# EAGLE library part MOJO (library SparkFun-Boards)
Mojo v3 FPGA Development Board Mechanical footprint with connectors for Mojo FPGA dev board. SparkFun Products: Mojo v3 <https://www.sparkfun.com/products/11953>
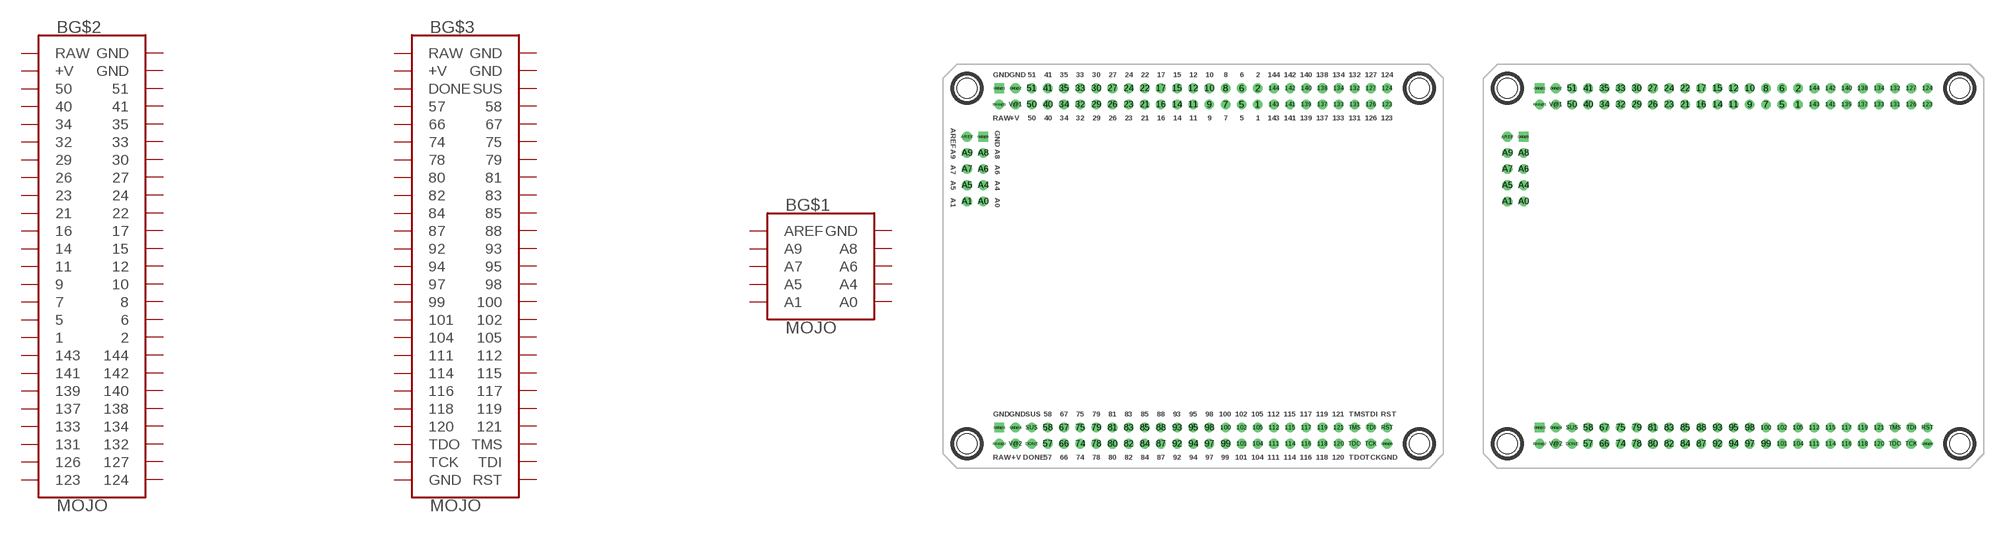
[diagram p1: symbol with the pads of MOJO_V3; footprints MOJO_V3, MOJO_V3_NO_LABEL]

Designator prefix B; gates G$1=MOJO_ANALOG_HEADER G$2=MOJO_HEADER_1 G$3=MOJO_HEADER_2

## MOJOV3  [MOJO_V3]
1  G$2:1
2  G$2:2
5  G$2:5
6  G$2:6
7  G$2:7
8  G$2:8
9  G$2:9
10  G$2:10
11  G$2:11
12  G$2:12
14  G$2:14
15  G$2:15
16  G$2:16
17  G$2:17
21  G$2:21
22  G$2:22
23  G$2:23
24  G$2:24
26  G$2:26
27  G$2:27
29  G$2:29
30  G$2:30
32  G$2:32
33  G$2:33
34  G$2:34
35  G$2:35
40  G$2:40
41  G$2:41
50  G$2:50
51  G$2:51
57  G$3:57
58  G$3:58
66  G$3:66
67  G$3:67
74  G$3:74
75  G$3:75
78  G$3:78
79  G$3:79
80  G$3:80
81  G$3:81
82  G$3:82
83  G$3:83
84  G$3:84
85  G$3:85
87  G$3:87
88  G$3:88
92  G$3:92
93  G$3:93
94  G$3:94
95  G$3:95
97  G$3:97
98  G$3:98
99  G$3:99
100  G$3:100
101  G$3:101
102  G$3:102
104  G$3:104
105  G$3:105
111  G$3:111
112  G$3:112
114  G$3:114
115  G$3:115
116  G$3:116
117  G$3:117
118  G$3:118
119  G$3:119
120  G$3:120
121  G$3:121
123  G$2:123
124  G$2:124
126  G$2:126
127  G$2:127
131  G$2:131
132  G$2:132
133  G$2:133
134  G$2:134
137  G$2:137
138  G$2:138
139  G$2:139
140  G$2:140
141  G$2:141
142  G$2:142
143  G$2:143
144  G$2:144
A0  G$1:A0  in
A1  G$1:A1  in
A4  G$1:A4  in
A5  G$1:A5  in
A6  G$1:A6  in
A7  G$1:A7  in
A8  G$1:A8  in
A9  G$1:A9  in
AREF  G$1:AREF  in
DONE  G$3:DONE
GND@1  G$2:GND  sup
GND@2  G$2:GND  sup
GND@3  G$3:GND  sup
GND@4  G$3:GND  sup
GND@5  G$1:GND  sup
GND@6  G$3:GND  sup
RAW@1  G$2:RAW  sup
RAW@2  G$3:RAW  sup
RST  G$3:RST  in
SUS  G$3:SUS  in
TCK  G$3:TCK  in
TDI  G$3:TDI  in
TDO  G$3:TDO  out
TMS  G$3:TMS  in
V@1  G$2:+V  sup
V@2  G$3:+V  sup

## MOJOV3_NO_LABEL  [MOJO_V3_NO_LABEL]
Pads as for MOJO_V3

## Footprint MOJO_V3 (pad centres in mm)
Mojo v3 FPGA Footprint Specifications: Pin count:110 Pin pitch: 0.1" Area:3.1x2.5 inch Example device(s): Mojo
drill 1: 1 10.16,24.13; 2 10.16,26.67; 5 7.62,24.13; 6 7.62,26.67; 7 5.08,24.13; 8 5.08,26.67; 9 2.54,24.13; 10 2.54,26.67; 11 0,24.13; 12 0,26.67; 14 -2.54,24.13; 15 -2.54,26.67; 16 -5.08,24.13; 17 -5.08,26.67; 21 -7.62,24.13; 22 -7.62,26.67; 23 -10.16,24.13; 24 -10.16,26.67; 26 -12.7,24.13; 27 -12.7,26.67; 29 -15.24,24.13; 30 -15.24,26.67; 32 -17.78,24.13; 33 -17.78,26.67; 34 -20.32,24.13; 35 -20.32,26.67; 40 -22.86,24.13; 41 -22.86,26.67; 50 -25.4,24.13; 51 -25.4,26.67; 57 -22.86,-29.21; 58 -22.86,-26.67; 66 -20.32,-29.21; 67 -20.32,-26.67; 74 -17.78,-29.21; 75 -17.78,-26.67; 78 -15.24,-29.21; 79 -15.24,-26.67; 80 -12.7,-29.21; 81 -12.7,-26.67; 82 -10.16,-29.21; 83 -10.16,-26.67; 84 -7.62,-29.21; 85 -7.62,-26.67; 87 -5.08,-29.21; 88 -5.08,-26.67; 92 -2.54,-29.21; 93 -2.54,-26.67; 94 0,-29.21; 95 0,-26.67; 97 2.54,-29.21; 98 2.54,-26.67; 99 5.08,-29.21; 100 5.08,-26.67; 101 7.62,-29.21; 102 7.62,-26.67; 104 10.16,-29.21; 105 10.16,-26.67; 111 12.7,-29.21; 112 12.7,-26.67; 114 15.24,-29.21; 115 15.24,-26.67; 116 17.78,-29.21; 117 17.78,-26.67; 118 20.32,-29.21; 119 20.32,-26.67; 120 22.86,-29.21; 121 22.86,-26.67; 123 30.48,24.13; 124 30.48,26.67; 126 27.94,24.13; 127 27.94,26.67; 131 25.4,24.13; 132 25.4,26.67; 133 22.86,24.13; 134 22.86,26.67; 137 20.32,24.13; 138 20.32,26.67; 139 17.78,24.13; 140 17.78,26.67; 141 15.24,24.13; 142 15.24,26.67; 143 12.7,24.13; 144 12.7,26.67; A0 -33.02,8.89; A1 -35.56,8.89; A4 -33.02,11.43; A5 -35.56,11.43; A6 -33.02,13.97; A7 -35.56,13.97; A8 -33.02,16.51; A9 -35.56,16.51; AREF -35.56,19.05; DONE -25.4,-29.21; GND@2 -27.94,26.67; GND@4 -27.94,-26.67; GND@6 30.48,-29.21; RAW@1 -30.48,24.13; RAW@2 -30.48,-29.21; RST 30.48,-26.67; SUS -25.4,-26.67; TCK 27.94,-29.21; TDI 27.94,-26.67; TDO 25.4,-29.21; TMS 25.4,-26.67; V@1 -27.94,24.13; V@2 -27.94,-29.21
drill 1 square: GND@1 -30.48,26.67; GND@3 -30.48,-26.67; GND@5 -33.02,19.05
hole 3.2 at -35.56,-29.21
hole 3.2 at -35.56,26.67
hole 3.2 at 35.56,26.67
hole 3.2 at 35.56,-29.21

## Footprint MOJO_V3_NO_LABEL (pad centres in mm)
Mojo v3 FPGA Footprint No silk labels on pins Specifications: Pin count:110 Pin pitch: 0.1" Area:3.1x2.5 inch Example device(s): Mojo
drill 1: 1 11.43,26.67; 2 11.43,29.21; 5 8.89,26.67; 6 8.89,29.21; 7 6.35,26.67; 8 6.35,29.21; 9 3.81,26.67; 10 3.81,29.21; 11 1.27,26.67; 12 1.27,29.21; 14 -1.27,26.67; 15 -1.27,29.21; 16 -3.81,26.67; 17 -3.81,29.21; 21 -6.35,26.67; 22 -6.35,29.21; 23 -8.89,26.67; 24 -8.89,29.21; 26 -11.43,26.67; 27 -11.43,29.21; 29 -13.97,26.67; 30 -13.97,29.21; 32 -16.51,26.67; 33 -16.51,29.21; 34 -19.05,26.67; 35 -19.05,29.21; 40 -21.59,26.67; 41 -21.59,29.21; 50 -24.13,26.67; 51 -24.13,29.21; 57 -21.59,-26.67; 58 -21.59,-24.13; 66 -19.05,-26.67; 67 -19.05,-24.13; 74 -16.51,-26.67; 75 -16.51,-24.13; 78 -13.97,-26.67; 79 -13.97,-24.13; 80 -11.43,-26.67; 81 -11.43,-24.13; 82 -8.89,-26.67; 83 -8.89,-24.13; 84 -6.35,-26.67; 85 -6.35,-24.13; 87 -3.81,-26.67; 88 -3.81,-24.13; 92 -1.27,-26.67; 93 -1.27,-24.13; 94 1.27,-26.67; 95 1.27,-24.13; 97 3.81,-26.67; 98 3.81,-24.13; 99 6.35,-26.67; 100 6.35,-24.13; 101 8.89,-26.67; 102 8.89,-24.13; 104 11.43,-26.67; 105 11.43,-24.13; 111 13.97,-26.67; 112 13.97,-24.13; 114 16.51,-26.67; 115 16.51,-24.13; 116 19.05,-26.67; 117 19.05,-24.13; 118 21.59,-26.67; 119 21.59,-24.13; 120 24.13,-26.67; 121 24.13,-24.13; 123 31.75,26.67; 124 31.75,29.21; 126 29.21,26.67; 127 29.21,29.21; 131 26.67,26.67; 132 26.67,29.21; 133 24.13,26.67; 134 24.13,29.21; 137 21.59,26.67; 138 21.59,29.21; 139 19.05,26.67; 140 19.05,29.21; 141 16.51,26.67; 142 16.51,29.21; 143 13.97,26.67; 144 13.97,29.21; A0 -31.75,11.43; A1 -34.29,11.43; A4 -31.75,13.97; A5 -34.29,13.97; A6 -31.75,16.51; A7 -34.29,16.51; A8 -31.75,19.05; A9 -34.29,19.05; AREF -34.29,21.59; DONE -24.13,-26.67; GND@2 -26.67,29.21; GND@4 -26.67,-24.13; GND@6 31.75,-26.67; RAW@1 -29.21,26.67; RAW@2 -29.21,-26.67; RST 31.75,-24.13; SUS -24.13,-24.13; TCK 29.21,-26.67; TDI 29.21,-24.13; TDO 26.67,-26.67; TMS 26.67,-24.13; V@1 -26.67,26.67; V@2 -26.67,-26.67
drill 1 square: GND@1 -29.21,29.21; GND@3 -29.21,-24.13; GND@5 -31.75,21.59
hole 3.2 at -34.29,-26.67
hole 3.2 at -34.29,29.21
hole 3.2 at 36.83,29.21
hole 3.2 at 36.83,-26.67